# Altium footprint library Connector_Samtec_LTMM.PcbLib: 26 footprints (part 2 of 2)
Each footprint in its own frame and in the unit in brackets; x right, y up, seen from the top. Pads: shape width x height; smd on the part's side, far side on the other; paste and mask are expansions set on the pad; w line width, h text height; cw(c..) or ccw(c..) is an arc to the next point about the centre after c.
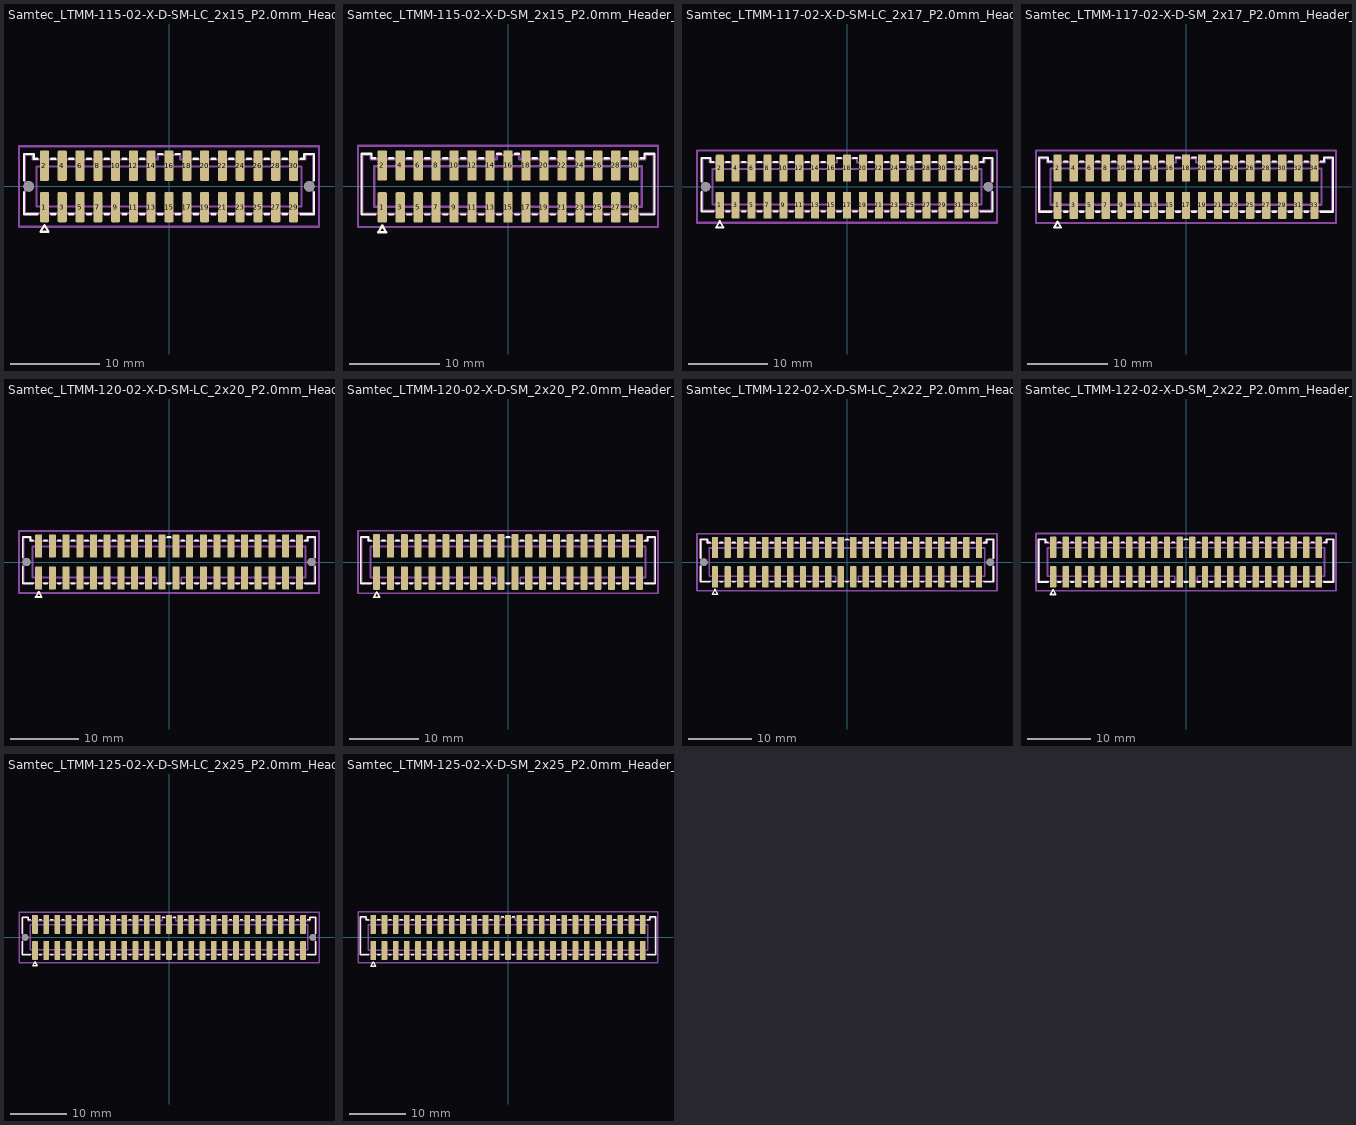
[diagram p1: the footprints below, top view; thin cyan lines are the x and y axes]

## Samtec_LTMM-115-02-X-D-SM-LC_2x15_P2.0mm_Header_Vertical_LockingClip [mm]
pads (32):
  rrect25% 1.02x3.39 smd: 1(-14,-2.33) 2(-14,2.33) 3(-12,-2.33) 4(-12,2.33) 5(-10,-2.33) 6(-10,2.33) 7(-8,-2.33) 8(-8,2.33) 9(-6,-2.33) 10(-6,2.33) 11(-4,-2.33) 12(-4,2.33) 13(-2,-2.33) 14(-2,2.33) 15(0,-2.33) 16(0,2.33) 17(2,-2.33) 18(2,2.33) 19(4,-2.33) 20(4,2.33) 21(6,-2.33) 22(6,2.33) 23(8,-2.33) 24(8,2.33) 25(10,-2.33) 26(10,2.33) 27(12,-2.33) 28(12,2.33) 29(14,-2.33) 30(14,2.33)
  round 1.19 hole 1.19: Un1(-15.76,0) Un2(15.76,0)
F.SilkS:
  lines w0.254: -16.301,-0.662 -16.301,-3.125 -14.77,-3.125 ; -16.301,0.662 -16.301,3.635 -15.192,3.635 -15.192,3.125 -14.77,3.125 ; -13.23,-3.125 -12.77,-3.125 ; -13.23,3.125 -12.77,3.125 ; -11.23,-3.125 -10.77,-3.125 ; -11.23,3.125 -10.77,3.125 ; -9.23,-3.125 -8.77,-3.125 ; -9.23,3.125 -8.77,3.125 ; -7.23,-3.125 -6.77,-3.125 ; -7.23,3.125 -6.77,3.125 ; -5.23,-3.125 -4.77,-3.125 ; -5.23,3.125 -4.77,3.125 ; -3.23,-3.125 -2.77,-3.125 ; -3.23,3.125 -2.77,3.125 ; -1.23,-3.125 -0.77,-3.125 ; -1.23,3.635 -0.77,3.635 ; 0.77,-3.125 1.23,-3.125 ; 0.77,3.635 1.23,3.635 ; 2.77,-3.125 3.23,-3.125 ; 2.77,3.125 3.23,3.125 ; 4.77,-3.125 5.23,-3.125 ; 4.77,3.125 5.23,3.125 ; 6.77,-3.125 7.23,-3.125 ; 6.77,3.125 7.23,3.125 ; 8.77,-3.125 9.23,-3.125 ; 8.77,3.125 9.23,3.125 ; 10.77,-3.125 11.23,-3.125 ; 10.77,3.125 11.23,3.125 ; 12.77,-3.125 13.23,-3.125 ; 12.77,3.125 13.23,3.125 ; 14.77,-3.125 16.301,-3.125 16.301,-0.662 ; 14.77,3.125 15.192,3.125 15.192,3.635 16.301,3.635 16.301,0.662 ; -14.442,-5.105 -13.558,-5.105 -14,-4.34 -14.442,-5.105
Top Assembly:
  lines w0.254: -14.381,-3.015 -14,-2.253 -13.619,-3.015 ; -1.78,-3.015 -1.78,-2.253 -14.889,-2.253 -14.889,2.253 14.889,2.253 14.889,-2.253 1.78,-2.253 1.78,-3.015 ; -16.191,-3.015 16.191,-3.015 16.191,3.015 16.191,3.525 15.302,3.525 15.302,3.015 1.25,3.015 1.25,3.525 -1.25,3.525 -1.25,3.015 -15.302,3.015 -15.302,3.525 -16.191,3.525 -16.191,-3.015
  text "'.Designator'" at -4.047,-0.84 h1
Top Courtyard:
  lines w0.254: -16.86,-4.53 16.86,-4.53 16.86,4.53 -16.86,4.53 -16.86,-4.53
Top Designator:
  text ".Designator" at -7.618,-0.795 h1.52

## Samtec_LTMM-115-02-X-D-SM_2x15_P2.0mm_Header_Vertical [mm]
pads (30):
  rrect25% 1.02x3.39 smd: 1(-14,-2.33) 2(-14,2.33) 3(-12,-2.33) 4(-12,2.33) 5(-10,-2.33) 6(-10,2.33) 7(-8,-2.33) 8(-8,2.33) 9(-6,-2.33) 10(-6,2.33) 11(-4,-2.33) 12(-4,2.33) 13(-2,-2.33) 14(-2,2.33) 15(0,-2.33) 16(0,2.33) 17(2,-2.33) 18(2,2.33) 19(4,-2.33) 20(4,2.33) 21(6,-2.33) 22(6,2.33) 23(8,-2.33) 24(8,2.33) 25(10,-2.33) 26(10,2.33) 27(12,-2.33) 28(12,2.33) 29(14,-2.33) 30(14,2.33)
F.SilkS:
  lines w0.254: -14.77,-3.125 -16.301,-3.125 -16.301,3.635 -15.192,3.635 -15.192,3.125 -14.77,3.125 ; -13.23,-3.125 -12.77,-3.125 ; -13.23,3.125 -12.77,3.125 ; -11.23,-3.125 -10.77,-3.125 ; -11.23,3.125 -10.77,3.125 ; -9.23,-3.125 -8.77,-3.125 ; -9.23,3.125 -8.77,3.125 ; -7.23,-3.125 -6.77,-3.125 ; -7.23,3.125 -6.77,3.125 ; -5.23,-3.125 -4.77,-3.125 ; -5.23,3.125 -4.77,3.125 ; -3.23,-3.125 -2.77,-3.125 ; -3.23,3.125 -2.77,3.125 ; -1.23,-3.125 -0.77,-3.125 ; -1.23,3.635 -0.77,3.635 ; 0.77,-3.125 1.23,-3.125 ; 0.77,3.635 1.23,3.635 ; 2.77,-3.125 3.23,-3.125 ; 2.77,3.125 3.23,3.125 ; 4.77,-3.125 5.23,-3.125 ; 4.77,3.125 5.23,3.125 ; 6.77,-3.125 7.23,-3.125 ; 6.77,3.125 7.23,3.125 ; 8.77,-3.125 9.23,-3.125 ; 8.77,3.125 9.23,3.125 ; 10.77,-3.125 11.23,-3.125 ; 10.77,3.125 11.23,3.125 ; 12.77,-3.125 13.23,-3.125 ; 12.77,3.125 13.23,3.125 ; 14.77,-3.125 16.301,-3.125 16.301,3.635 15.192,3.635 15.192,3.125 14.77,3.125 ; -14.442,-5.105 -13.558,-5.105 -14,-4.34 -14.442,-5.105
Top Assembly:
  lines w0.254: -14.381,-3.015 -14,-2.253 -13.619,-3.015 ; -1.78,-3.015 -1.78,-2.253 -14.889,-2.253 -14.889,2.253 14.889,2.253 14.889,-2.253 1.78,-2.253 1.78,-3.015 ; -16.191,-3.015 16.191,-3.015 16.191,3.015 16.191,3.525 15.302,3.525 15.302,3.015 1.25,3.015 1.25,3.525 -1.25,3.525 -1.25,3.015 -15.302,3.015 -15.302,3.525 -16.191,3.525 -16.191,-3.015
  text "'.Designator'" at -4.047,-0.84 h1
Top Courtyard:
  lines w0.254: -16.7,-4.53 16.7,-4.53 16.7,4.53 -16.7,4.53 -16.7,-4.53
Top Designator:
  text ".Designator" at -7.618,-0.795 h1.52

## Samtec_LTMM-117-02-X-D-SM-LC_2x17_P2.0mm_Header_Vertical_LockingClip [mm]
pads (36):
  rrect25% 1.02x3.39 smd: 1(-16,-2.33) 2(-16,2.33) 3(-14,-2.33) 4(-14,2.33) 5(-12,-2.33) 6(-12,2.33) 7(-10,-2.33) 8(-10,2.33) 9(-8,-2.33) 10(-8,2.33) 11(-6,-2.33) 12(-6,2.33) 13(-4,-2.33) 14(-4,2.33) 15(-2,-2.33) 16(-2,2.33) 17(0,-2.33) 18(0,2.33) 19(2,-2.33) 20(2,2.33) 21(4,-2.33) 22(4,2.33) 23(6,-2.33) 24(6,2.33) 25(8,-2.33) 26(8,2.33) 27(10,-2.33) 28(10,2.33) 29(12,-2.33) 30(12,2.33) 31(14,-2.33) 32(14,2.33) 33(16,-2.33) 34(16,2.33)
  round 1.19 hole 1.19: Un1(-17.76,0) Un2(17.76,0)
F.SilkS:
  lines w0.254: -18.302,-0.662 -18.302,-3.125 -16.77,-3.125 ; -18.302,0.662 -18.302,3.635 -17.193,3.635 -17.193,3.125 -16.77,3.125 ; -15.23,-3.125 -14.77,-3.125 ; -15.23,3.125 -14.77,3.125 ; -13.23,-3.125 -12.77,-3.125 ; -13.23,3.125 -12.77,3.125 ; -11.23,-3.125 -10.77,-3.125 ; -11.23,3.125 -10.77,3.125 ; -9.23,-3.125 -8.77,-3.125 ; -9.23,3.125 -8.77,3.125 ; -7.23,-3.125 -6.77,-3.125 ; -7.23,3.125 -6.77,3.125 ; -5.23,-3.125 -4.77,-3.125 ; -5.23,3.125 -4.77,3.125 ; -3.23,-3.125 -2.77,-3.125 ; -3.23,3.125 -2.77,3.125 ; -1.23,-3.125 -0.77,-3.125 ; -1.23,3.635 -0.77,3.635 ; 0.77,-3.125 1.23,-3.125 ; 0.77,3.635 1.23,3.635 ; 2.77,-3.125 3.23,-3.125 ; 2.77,3.125 3.23,3.125 ; 4.77,-3.125 5.23,-3.125 ; 4.77,3.125 5.23,3.125 ; 6.77,-3.125 7.23,-3.125 ; 6.77,3.125 7.23,3.125 ; 8.77,-3.125 9.23,-3.125 ; 8.77,3.125 9.23,3.125 ; 10.77,-3.125 11.23,-3.125 ; 10.77,3.125 11.23,3.125 ; 12.77,-3.125 13.23,-3.125 ; 12.77,3.125 13.23,3.125 ; 14.77,-3.125 15.23,-3.125 ; 14.77,3.125 15.23,3.125 ; 16.77,-3.125 18.302,-3.125 18.302,-0.662 ; 16.77,3.125 17.193,3.125 17.193,3.635 18.302,3.635 18.302,0.662 ; -16.442,-5.105 -15.558,-5.105 -16,-4.34 -16.442,-5.105
Top Assembly:
  lines w0.254: -16.381,-3.015 -16,-2.253 -15.619,-3.015 ; -1.78,-3.015 -1.78,-2.253 -16.889,-2.253 -16.889,2.253 16.889,2.253 16.889,-2.253 1.78,-2.253 1.78,-3.015 ; -18.192,-3.015 18.192,-3.015 18.192,3.015 18.192,3.525 17.303,3.525 17.303,3.015 1.25,3.015 1.25,3.525 -1.25,3.525 -1.25,3.015 -17.303,3.015 -17.303,3.525 -18.192,3.525 -18.192,-3.015
  text "'.Designator'" at -4.047,-0.84 h1
Top Courtyard:
  lines w0.254: -18.86,-4.53 18.86,-4.53 18.86,4.53 -18.86,4.53 -18.86,-4.53
Top Designator:
  text ".Designator" at -7.618,-0.795 h1.52

## Samtec_LTMM-117-02-X-D-SM_2x17_P2.0mm_Header_Vertical [mm]
pads (34):
  rrect25% 1.02x3.39 smd: 1(-16,-2.33) 2(-16,2.33) 3(-14,-2.33) 4(-14,2.33) 5(-12,-2.33) 6(-12,2.33) 7(-10,-2.33) 8(-10,2.33) 9(-8,-2.33) 10(-8,2.33) 11(-6,-2.33) 12(-6,2.33) 13(-4,-2.33) 14(-4,2.33) 15(-2,-2.33) 16(-2,2.33) 17(0,-2.33) 18(0,2.33) 19(2,-2.33) 20(2,2.33) 21(4,-2.33) 22(4,2.33) 23(6,-2.33) 24(6,2.33) 25(8,-2.33) 26(8,2.33) 27(10,-2.33) 28(10,2.33) 29(12,-2.33) 30(12,2.33) 31(14,-2.33) 32(14,2.33) 33(16,-2.33) 34(16,2.33)
F.SilkS:
  lines w0.254: -16.77,-3.125 -18.302,-3.125 -18.302,3.635 -17.193,3.635 -17.193,3.125 -16.77,3.125 ; -15.23,-3.125 -14.77,-3.125 ; -15.23,3.125 -14.77,3.125 ; -13.23,-3.125 -12.77,-3.125 ; -13.23,3.125 -12.77,3.125 ; -11.23,-3.125 -10.77,-3.125 ; -11.23,3.125 -10.77,3.125 ; -9.23,-3.125 -8.77,-3.125 ; -9.23,3.125 -8.77,3.125 ; -7.23,-3.125 -6.77,-3.125 ; -7.23,3.125 -6.77,3.125 ; -5.23,-3.125 -4.77,-3.125 ; -5.23,3.125 -4.77,3.125 ; -3.23,-3.125 -2.77,-3.125 ; -3.23,3.125 -2.77,3.125 ; -1.23,-3.125 -0.77,-3.125 ; -1.23,3.635 -0.77,3.635 ; 0.77,-3.125 1.23,-3.125 ; 0.77,3.635 1.23,3.635 ; 2.77,-3.125 3.23,-3.125 ; 2.77,3.125 3.23,3.125 ; 4.77,-3.125 5.23,-3.125 ; 4.77,3.125 5.23,3.125 ; 6.77,-3.125 7.23,-3.125 ; 6.77,3.125 7.23,3.125 ; 8.77,-3.125 9.23,-3.125 ; 8.77,3.125 9.23,3.125 ; 10.77,-3.125 11.23,-3.125 ; 10.77,3.125 11.23,3.125 ; 12.77,-3.125 13.23,-3.125 ; 12.77,3.125 13.23,3.125 ; 14.77,-3.125 15.23,-3.125 ; 14.77,3.125 15.23,3.125 ; 16.77,-3.125 18.302,-3.125 18.302,3.635 17.193,3.635 17.193,3.125 16.77,3.125 ; -16.442,-5.105 -15.558,-5.105 -16,-4.34 -16.442,-5.105
Top Assembly:
  lines w0.254: -16.381,-3.015 -16,-2.253 -15.619,-3.015 ; -1.78,-3.015 -1.78,-2.253 -16.889,-2.253 -16.889,2.253 16.889,2.253 16.889,-2.253 1.78,-2.253 1.78,-3.015 ; -18.192,-3.015 18.192,-3.015 18.192,3.015 18.192,3.525 17.303,3.525 17.303,3.015 1.25,3.015 1.25,3.525 -1.25,3.525 -1.25,3.015 -17.303,3.015 -17.303,3.525 -18.192,3.525 -18.192,-3.015
  text "'.Designator'" at -4.047,-0.84 h1
Top Courtyard:
  lines w0.254: -18.7,-4.53 18.7,-4.53 18.7,4.53 -18.7,4.53 -18.7,-4.53
Top Designator:
  text ".Designator" at -7.618,-0.795 h1.52

## Samtec_LTMM-120-02-X-D-SM-LC_2x20_P2.0mm_Header_Vertical_LockingClip [mm]
pads (42):
  rrect25% 1.02x3.39 smd: 1(-19,-2.33) 2(-19,2.33) 3(-17,-2.33) 4(-17,2.33) 5(-15,-2.33) 6(-15,2.33) 7(-13,-2.33) 8(-13,2.33) 9(-11,-2.33) 10(-11,2.33) 11(-9,-2.33) 12(-9,2.33) 13(-7,-2.33) 14(-7,2.33) 15(-5,-2.33) 16(-5,2.33) 17(-3,-2.33) 18(-3,2.33) 19(-1,-2.33) 20(-1,2.33) 21(1,-2.33) 22(1,2.33) 23(3,-2.33) 24(3,2.33) 25(5,-2.33) 26(5,2.33) 27(7,-2.33) 28(7,2.33) 29(9,-2.33) 30(9,2.33) 31(11,-2.33) 32(11,2.33) 33(13,-2.33) 34(13,2.33) 35(15,-2.33) 36(15,2.33) 37(17,-2.33) 38(17,2.33) 39(19,-2.33) 40(19,2.33)
  round 1.19 hole 1.19: Un1(-20.76,0) Un2(20.76,0)
F.SilkS:
  lines w0.254: -21.301,-0.662 -21.301,-3.125 -19.77,-3.125 ; -21.301,0.662 -21.301,3.635 -20.192,3.635 -20.192,3.125 -19.77,3.125 ; -18.23,-3.125 -17.77,-3.125 ; -18.23,3.125 -17.77,3.125 ; -16.23,-3.125 -15.77,-3.125 ; -16.23,3.125 -15.77,3.125 ; -14.23,-3.125 -13.77,-3.125 ; -14.23,3.125 -13.77,3.125 ; -12.23,-3.125 -11.77,-3.125 ; -12.23,3.125 -11.77,3.125 ; -10.23,-3.125 -9.77,-3.125 ; -10.23,3.125 -9.77,3.125 ; -8.23,-3.125 -7.77,-3.125 ; -8.23,3.125 -7.77,3.125 ; -6.23,-3.125 -5.77,-3.125 ; -6.23,3.125 -5.77,3.125 ; -4.23,-3.125 -3.77,-3.125 ; -4.23,3.125 -3.77,3.125 ; -2.23,-3.125 -1.77,-3.125 ; -2.23,3.125 -1.77,3.125 ; -0.23,-3.125 0.23,-3.125 ; -0.23,3.635 0.23,3.635 ; 1.77,-3.125 2.23,-3.125 ; 1.77,3.125 2.23,3.125 ; 3.77,-3.125 4.23,-3.125 ; 3.77,3.125 4.23,3.125 ; 5.77,-3.125 6.23,-3.125 ; 5.77,3.125 6.23,3.125 ; 7.77,-3.125 8.23,-3.125 ; 7.77,3.125 8.23,3.125 ; 9.77,-3.125 10.23,-3.125 ; 9.77,3.125 10.23,3.125 ; 11.77,-3.125 12.23,-3.125 ; 11.77,3.125 12.23,3.125 ; 13.77,-3.125 14.23,-3.125 ; 13.77,3.125 14.23,3.125 ; 15.77,-3.125 16.23,-3.125 ; 15.77,3.125 16.23,3.125 ; 17.77,-3.125 18.23,-3.125 ; 17.77,3.125 18.23,3.125 ; 19.77,-3.125 21.301,-3.125 21.301,-0.662 ; 19.77,3.125 20.192,3.125 20.192,3.635 21.301,3.635 21.301,0.662 ; -19.442,-5.105 -18.558,-5.105 -19,-4.34 -19.442,-5.105
Top Assembly:
  lines w0.254: -19.381,-3.015 -19,-2.253 -18.619,-3.015 ; -1.78,-3.015 -1.78,-2.253 -19.889,-2.253 -19.889,2.253 19.889,2.253 19.889,-2.253 1.78,-2.253 1.78,-3.015 ; -21.191,-3.015 21.191,-3.015 21.191,3.015 21.191,3.525 20.302,3.525 20.302,3.015 1.25,3.015 1.25,3.525 -1.25,3.525 -1.25,3.015 -20.302,3.015 -20.302,3.525 -21.191,3.525 -21.191,-3.015
  text "'.Designator'" at -4.047,-0.84 h1
Top Courtyard:
  lines w0.254: -21.86,-4.53 21.86,-4.53 21.86,4.53 -21.86,4.53 -21.86,-4.53
Top Designator:
  text ".Designator" at -7.618,-0.795 h1.52

## Samtec_LTMM-120-02-X-D-SM_2x20_P2.0mm_Header_Vertical [mm]
pads (40):
  rrect25% 1.02x3.39 smd: 1(-19,-2.33) 2(-19,2.33) 3(-17,-2.33) 4(-17,2.33) 5(-15,-2.33) 6(-15,2.33) 7(-13,-2.33) 8(-13,2.33) 9(-11,-2.33) 10(-11,2.33) 11(-9,-2.33) 12(-9,2.33) 13(-7,-2.33) 14(-7,2.33) 15(-5,-2.33) 16(-5,2.33) 17(-3,-2.33) 18(-3,2.33) 19(-1,-2.33) 20(-1,2.33) 21(1,-2.33) 22(1,2.33) 23(3,-2.33) 24(3,2.33) 25(5,-2.33) 26(5,2.33) 27(7,-2.33) 28(7,2.33) 29(9,-2.33) 30(9,2.33) 31(11,-2.33) 32(11,2.33) 33(13,-2.33) 34(13,2.33) 35(15,-2.33) 36(15,2.33) 37(17,-2.33) 38(17,2.33) 39(19,-2.33) 40(19,2.33)
F.SilkS:
  lines w0.254: -19.77,-3.125 -21.301,-3.125 -21.301,3.635 -20.192,3.635 -20.192,3.125 -19.77,3.125 ; -18.23,-3.125 -17.77,-3.125 ; -18.23,3.125 -17.77,3.125 ; -16.23,-3.125 -15.77,-3.125 ; -16.23,3.125 -15.77,3.125 ; -14.23,-3.125 -13.77,-3.125 ; -14.23,3.125 -13.77,3.125 ; -12.23,-3.125 -11.77,-3.125 ; -12.23,3.125 -11.77,3.125 ; -10.23,-3.125 -9.77,-3.125 ; -10.23,3.125 -9.77,3.125 ; -8.23,-3.125 -7.77,-3.125 ; -8.23,3.125 -7.77,3.125 ; -6.23,-3.125 -5.77,-3.125 ; -6.23,3.125 -5.77,3.125 ; -4.23,-3.125 -3.77,-3.125 ; -4.23,3.125 -3.77,3.125 ; -2.23,-3.125 -1.77,-3.125 ; -2.23,3.125 -1.77,3.125 ; -0.23,-3.125 0.23,-3.125 ; -0.23,3.635 0.23,3.635 ; 1.77,-3.125 2.23,-3.125 ; 1.77,3.125 2.23,3.125 ; 3.77,-3.125 4.23,-3.125 ; 3.77,3.125 4.23,3.125 ; 5.77,-3.125 6.23,-3.125 ; 5.77,3.125 6.23,3.125 ; 7.77,-3.125 8.23,-3.125 ; 7.77,3.125 8.23,3.125 ; 9.77,-3.125 10.23,-3.125 ; 9.77,3.125 10.23,3.125 ; 11.77,-3.125 12.23,-3.125 ; 11.77,3.125 12.23,3.125 ; 13.77,-3.125 14.23,-3.125 ; 13.77,3.125 14.23,3.125 ; 15.77,-3.125 16.23,-3.125 ; 15.77,3.125 16.23,3.125 ; 17.77,-3.125 18.23,-3.125 ; 17.77,3.125 18.23,3.125 ; 19.77,-3.125 21.301,-3.125 21.301,3.635 20.192,3.635 20.192,3.125 19.77,3.125 ; -19.442,-5.105 -18.558,-5.105 -19,-4.34 -19.442,-5.105
Top Assembly:
  lines w0.254: -19.381,-3.015 -19,-2.253 -18.619,-3.015 ; -1.78,-3.015 -1.78,-2.253 -19.889,-2.253 -19.889,2.253 19.889,2.253 19.889,-2.253 1.78,-2.253 1.78,-3.015 ; -21.191,-3.015 21.191,-3.015 21.191,3.015 21.191,3.525 20.302,3.525 20.302,3.015 1.25,3.015 1.25,3.525 -1.25,3.525 -1.25,3.015 -20.302,3.015 -20.302,3.525 -21.191,3.525 -21.191,-3.015
  text "'.Designator'" at -4.047,-0.84 h1
Top Courtyard:
  lines w0.254: -21.7,-4.53 21.7,-4.53 21.7,4.53 -21.7,4.53 -21.7,-4.53
Top Designator:
  text ".Designator" at -7.618,-0.795 h1.52

## Samtec_LTMM-122-02-X-D-SM-LC_2x22_P2.0mm_Header_Vertical_LockingClip [mm]
pads (46):
  rrect25% 1.02x3.39 smd: 1(-21,-2.33) 2(-21,2.33) 3(-19,-2.33) 4(-19,2.33) 5(-17,-2.33) 6(-17,2.33) 7(-15,-2.33) 8(-15,2.33) 9(-13,-2.33) 10(-13,2.33) 11(-11,-2.33) 12(-11,2.33) 13(-9,-2.33) 14(-9,2.33) 15(-7,-2.33) 16(-7,2.33) 17(-5,-2.33) 18(-5,2.33) 19(-3,-2.33) 20(-3,2.33) 21(-1,-2.33) 22(-1,2.33) 23(1,-2.33) 24(1,2.33) 25(3,-2.33) 26(3,2.33) 27(5,-2.33) 28(5,2.33) 29(7,-2.33) 30(7,2.33) 31(9,-2.33) 32(9,2.33) 33(11,-2.33) 34(11,2.33) 35(13,-2.33) 36(13,2.33) 37(15,-2.33) 38(15,2.33) 39(17,-2.33) 40(17,2.33) 41(19,-2.33) 42(19,2.33) 43(21,-2.33) 44(21,2.33)
  round 1.19 hole 1.19: Un1(-22.76,0) Un2(22.76,0)
F.SilkS:
  lines w0.254: -23.302,-0.662 -23.302,-3.125 -21.77,-3.125 ; -23.302,0.662 -23.302,3.635 -22.193,3.635 -22.193,3.125 -21.77,3.125 ; -20.23,-3.125 -19.77,-3.125 ; -20.23,3.125 -19.77,3.125 ; -18.23,-3.125 -17.77,-3.125 ; -18.23,3.125 -17.77,3.125 ; -16.23,-3.125 -15.77,-3.125 ; -16.23,3.125 -15.77,3.125 ; -14.23,-3.125 -13.77,-3.125 ; -14.23,3.125 -13.77,3.125 ; -12.23,-3.125 -11.77,-3.125 ; -12.23,3.125 -11.77,3.125 ; -10.23,-3.125 -9.77,-3.125 ; -10.23,3.125 -9.77,3.125 ; -8.23,-3.125 -7.77,-3.125 ; -8.23,3.125 -7.77,3.125 ; -6.23,-3.125 -5.77,-3.125 ; -6.23,3.125 -5.77,3.125 ; -4.23,-3.125 -3.77,-3.125 ; -4.23,3.125 -3.77,3.125 ; -2.23,-3.125 -1.77,-3.125 ; -2.23,3.125 -1.77,3.125 ; -0.23,-3.125 0.23,-3.125 ; -0.23,3.635 0.23,3.635 ; 1.77,-3.125 2.23,-3.125 ; 1.77,3.125 2.23,3.125 ; 3.77,-3.125 4.23,-3.125 ; 3.77,3.125 4.23,3.125 ; 5.77,-3.125 6.23,-3.125 ; 5.77,3.125 6.23,3.125 ; 7.77,-3.125 8.23,-3.125 ; 7.77,3.125 8.23,3.125 ; 9.77,-3.125 10.23,-3.125 ; 9.77,3.125 10.23,3.125 ; 11.77,-3.125 12.23,-3.125 ; 11.77,3.125 12.23,3.125 ; 13.77,-3.125 14.23,-3.125 ; 13.77,3.125 14.23,3.125 ; 15.77,-3.125 16.23,-3.125 ; 15.77,3.125 16.23,3.125 ; 17.77,-3.125 18.23,-3.125 ; 17.77,3.125 18.23,3.125 ; 19.77,-3.125 20.23,-3.125 ; 19.77,3.125 20.23,3.125 ; 21.77,-3.125 23.302,-3.125 23.302,-0.662 ; 21.77,3.125 22.193,3.125 22.193,3.635 23.302,3.635 23.302,0.662 ; -21.442,-5.105 -20.558,-5.105 -21,-4.34 -21.442,-5.105
Top Assembly:
  lines w0.254: -21.381,-3.015 -21,-2.253 -20.619,-3.015 ; -1.78,-3.015 -1.78,-2.253 -21.889,-2.253 -21.889,2.253 21.889,2.253 21.889,-2.253 1.78,-2.253 1.78,-3.015 ; -23.192,-3.015 23.192,-3.015 23.192,3.015 23.192,3.525 22.303,3.525 22.303,3.015 1.25,3.015 1.25,3.525 -1.25,3.525 -1.25,3.015 -22.303,3.015 -22.303,3.525 -23.192,3.525 -23.192,-3.015
  text "'.Designator'" at -4.047,-0.84 h1
Top Courtyard:
  lines w0.254: -23.86,-4.53 23.86,-4.53 23.86,4.53 -23.86,4.53 -23.86,-4.53
Top Designator:
  text ".Designator" at -7.618,-0.795 h1.52

## Samtec_LTMM-122-02-X-D-SM_2x22_P2.0mm_Header_Vertical [mm]
pads (44):
  rrect25% 1.02x3.39 smd: 1(-21,-2.33) 2(-21,2.33) 3(-19,-2.33) 4(-19,2.33) 5(-17,-2.33) 6(-17,2.33) 7(-15,-2.33) 8(-15,2.33) 9(-13,-2.33) 10(-13,2.33) 11(-11,-2.33) 12(-11,2.33) 13(-9,-2.33) 14(-9,2.33) 15(-7,-2.33) 16(-7,2.33) 17(-5,-2.33) 18(-5,2.33) 19(-3,-2.33) 20(-3,2.33) 21(-1,-2.33) 22(-1,2.33) 23(1,-2.33) 24(1,2.33) 25(3,-2.33) 26(3,2.33) 27(5,-2.33) 28(5,2.33) 29(7,-2.33) 30(7,2.33) 31(9,-2.33) 32(9,2.33) 33(11,-2.33) 34(11,2.33) 35(13,-2.33) 36(13,2.33) 37(15,-2.33) 38(15,2.33) 39(17,-2.33) 40(17,2.33) 41(19,-2.33) 42(19,2.33) 43(21,-2.33) 44(21,2.33)
F.SilkS:
  lines w0.254: -21.77,-3.125 -23.302,-3.125 -23.302,3.635 -22.193,3.635 -22.193,3.125 -21.77,3.125 ; -20.23,-3.125 -19.77,-3.125 ; -20.23,3.125 -19.77,3.125 ; -18.23,-3.125 -17.77,-3.125 ; -18.23,3.125 -17.77,3.125 ; -16.23,-3.125 -15.77,-3.125 ; -16.23,3.125 -15.77,3.125 ; -14.23,-3.125 -13.77,-3.125 ; -14.23,3.125 -13.77,3.125 ; -12.23,-3.125 -11.77,-3.125 ; -12.23,3.125 -11.77,3.125 ; -10.23,-3.125 -9.77,-3.125 ; -10.23,3.125 -9.77,3.125 ; -8.23,-3.125 -7.77,-3.125 ; -8.23,3.125 -7.77,3.125 ; -6.23,-3.125 -5.77,-3.125 ; -6.23,3.125 -5.77,3.125 ; -4.23,-3.125 -3.77,-3.125 ; -4.23,3.125 -3.77,3.125 ; -2.23,-3.125 -1.77,-3.125 ; -2.23,3.125 -1.77,3.125 ; -0.23,-3.125 0.23,-3.125 ; -0.23,3.635 0.23,3.635 ; 1.77,-3.125 2.23,-3.125 ; 1.77,3.125 2.23,3.125 ; 3.77,-3.125 4.23,-3.125 ; 3.77,3.125 4.23,3.125 ; 5.77,-3.125 6.23,-3.125 ; 5.77,3.125 6.23,3.125 ; 7.77,-3.125 8.23,-3.125 ; 7.77,3.125 8.23,3.125 ; 9.77,-3.125 10.23,-3.125 ; 9.77,3.125 10.23,3.125 ; 11.77,-3.125 12.23,-3.125 ; 11.77,3.125 12.23,3.125 ; 13.77,-3.125 14.23,-3.125 ; 13.77,3.125 14.23,3.125 ; 15.77,-3.125 16.23,-3.125 ; 15.77,3.125 16.23,3.125 ; 17.77,-3.125 18.23,-3.125 ; 17.77,3.125 18.23,3.125 ; 19.77,-3.125 20.23,-3.125 ; 19.77,3.125 20.23,3.125 ; 21.77,-3.125 23.302,-3.125 23.302,3.635 22.193,3.635 22.193,3.125 21.77,3.125 ; -21.442,-5.105 -20.558,-5.105 -21,-4.34 -21.442,-5.105
Top Assembly:
  lines w0.254: -21.381,-3.015 -21,-2.253 -20.619,-3.015 ; -1.78,-3.015 -1.78,-2.253 -21.889,-2.253 -21.889,2.253 21.889,2.253 21.889,-2.253 1.78,-2.253 1.78,-3.015 ; -23.192,-3.015 23.192,-3.015 23.192,3.015 23.192,3.525 22.303,3.525 22.303,3.015 1.25,3.015 1.25,3.525 -1.25,3.525 -1.25,3.015 -22.303,3.015 -22.303,3.525 -23.192,3.525 -23.192,-3.015
  text "'.Designator'" at -4.047,-0.84 h1
Top Courtyard:
  lines w0.254: -23.7,-4.53 23.7,-4.53 23.7,4.53 -23.7,4.53 -23.7,-4.53
Top Designator:
  text ".Designator" at -7.618,-0.795 h1.52

## Samtec_LTMM-125-02-X-D-SM-LC_2x25_P2.0mm_Header_Vertical_LockingClip [mm]
pads (52):
  rrect25% 1.02x3.39 smd: 1(-24,-2.33) 2(-24,2.33) 3(-22,-2.33) 4(-22,2.33) 5(-20,-2.33) 6(-20,2.33) 7(-18,-2.33) 8(-18,2.33) 9(-16,-2.33) 10(-16,2.33) 11(-14,-2.33) 12(-14,2.33) 13(-12,-2.33) 14(-12,2.33) 15(-10,-2.33) 16(-10,2.33) 17(-8,-2.33) 18(-8,2.33) 19(-6,-2.33) 20(-6,2.33) 21(-4,-2.33) 22(-4,2.33) 23(-2,-2.33) 24(-2,2.33) 25(0,-2.33) 26(0,2.33) 27(2,-2.33) 28(2,2.33) 29(4,-2.33) 30(4,2.33) 31(6,-2.33) 32(6,2.33) 33(8,-2.33) 34(8,2.33) 35(10,-2.33) 36(10,2.33) 37(12,-2.33) 38(12,2.33) 39(14,-2.33) 40(14,2.33) 41(16,-2.33) 42(16,2.33) 43(18,-2.33) 44(18,2.33) 45(20,-2.33) 46(20,2.33) 47(22,-2.33) 48(22,2.33) 49(24,-2.33) 50(24,2.33)
  round 1.19 hole 1.19: Un1(-25.76,0) Un2(25.76,0)
F.SilkS:
  lines w0.254: -26.301,-0.662 -26.301,-3.125 -24.77,-3.125 ; -26.301,0.662 -26.301,3.635 -25.192,3.635 -25.192,3.125 -24.77,3.125 ; -23.23,-3.125 -22.77,-3.125 ; -23.23,3.125 -22.77,3.125 ; -21.23,-3.125 -20.77,-3.125 ; -21.23,3.125 -20.77,3.125 ; -19.23,-3.125 -18.77,-3.125 ; -19.23,3.125 -18.77,3.125 ; -17.23,-3.125 -16.77,-3.125 ; -17.23,3.125 -16.77,3.125 ; -15.23,-3.125 -14.77,-3.125 ; -15.23,3.125 -14.77,3.125 ; -13.23,-3.125 -12.77,-3.125 ; -13.23,3.125 -12.77,3.125 ; -11.23,-3.125 -10.77,-3.125 ; -11.23,3.125 -10.77,3.125 ; -9.23,-3.125 -8.77,-3.125 ; -9.23,3.125 -8.77,3.125 ; -7.23,-3.125 -6.77,-3.125 ; -7.23,3.125 -6.77,3.125 ; -5.23,-3.125 -4.77,-3.125 ; -5.23,3.125 -4.77,3.125 ; -3.23,-3.125 -2.77,-3.125 ; -3.23,3.125 -2.77,3.125 ; -1.23,-3.125 -0.77,-3.125 ; -1.23,3.635 -0.77,3.635 ; 0.77,-3.125 1.23,-3.125 ; 0.77,3.635 1.23,3.635 ; 2.77,-3.125 3.23,-3.125 ; 2.77,3.125 3.23,3.125 ; 4.77,-3.125 5.23,-3.125 ; 4.77,3.125 5.23,3.125 ; 6.77,-3.125 7.23,-3.125 ; 6.77,3.125 7.23,3.125 ; 8.77,-3.125 9.23,-3.125 ; 8.77,3.125 9.23,3.125 ; 10.77,-3.125 11.23,-3.125 ; 10.77,3.125 11.23,3.125 ; 12.77,-3.125 13.23,-3.125 ; 12.77,3.125 13.23,3.125 ; 14.77,-3.125 15.23,-3.125 ; 14.77,3.125 15.23,3.125 ; 16.77,-3.125 17.23,-3.125 ; 16.77,3.125 17.23,3.125 ; 18.77,-3.125 19.23,-3.125 ; 18.77,3.125 19.23,3.125 ; 20.77,-3.125 21.23,-3.125 ; 20.77,3.125 21.23,3.125 ; 22.77,-3.125 23.23,-3.125 ; 22.77,3.125 23.23,3.125 ; 24.77,-3.125 26.301,-3.125 26.301,-0.662 ; 24.77,3.125 25.192,3.125 25.192,3.635 26.301,3.635 26.301,0.662 ; -24.442,-5.105 -23.558,-5.105 -24,-4.34 -24.442,-5.105
Top Assembly:
  lines w0.254: -24.381,-3.015 -24,-2.253 -23.619,-3.015 ; -1.78,-3.015 -1.78,-2.253 -24.889,-2.253 -24.889,2.253 24.889,2.253 24.889,-2.253 1.78,-2.253 1.78,-3.015 ; -26.191,-3.015 26.191,-3.015 26.191,3.015 26.191,3.525 25.302,3.525 25.302,3.015 1.25,3.015 1.25,3.525 -1.25,3.525 -1.25,3.015 -25.302,3.015 -25.302,3.525 -26.191,3.525 -26.191,-3.015
  text "'.Designator'" at -4.047,-0.84 h1
Top Courtyard:
  lines w0.254: -26.86,-4.53 26.86,-4.53 26.86,4.53 -26.86,4.53 -26.86,-4.53
Top Designator:
  text ".Designator" at -7.618,-0.795 h1.52

## Samtec_LTMM-125-02-X-D-SM_2x25_P2.0mm_Header_Vertical [mm]
pads (50):
  rrect25% 1.02x3.39 smd: 1(-24,-2.33) 2(-24,2.33) 3(-22,-2.33) 4(-22,2.33) 5(-20,-2.33) 6(-20,2.33) 7(-18,-2.33) 8(-18,2.33) 9(-16,-2.33) 10(-16,2.33) 11(-14,-2.33) 12(-14,2.33) 13(-12,-2.33) 14(-12,2.33) 15(-10,-2.33) 16(-10,2.33) 17(-8,-2.33) 18(-8,2.33) 19(-6,-2.33) 20(-6,2.33) 21(-4,-2.33) 22(-4,2.33) 23(-2,-2.33) 24(-2,2.33) 25(0,-2.33) 26(0,2.33) 27(2,-2.33) 28(2,2.33) 29(4,-2.33) 30(4,2.33) 31(6,-2.33) 32(6,2.33) 33(8,-2.33) 34(8,2.33) 35(10,-2.33) 36(10,2.33) 37(12,-2.33) 38(12,2.33) 39(14,-2.33) 40(14,2.33) 41(16,-2.33) 42(16,2.33) 43(18,-2.33) 44(18,2.33) 45(20,-2.33) 46(20,2.33) 47(22,-2.33) 48(22,2.33) 49(24,-2.33) 50(24,2.33)
F.SilkS:
  lines w0.254: -24.77,-3.125 -26.301,-3.125 -26.301,3.635 -25.192,3.635 -25.192,3.125 -24.77,3.125 ; -23.23,-3.125 -22.77,-3.125 ; -23.23,3.125 -22.77,3.125 ; -21.23,-3.125 -20.77,-3.125 ; -21.23,3.125 -20.77,3.125 ; -19.23,-3.125 -18.77,-3.125 ; -19.23,3.125 -18.77,3.125 ; -17.23,-3.125 -16.77,-3.125 ; -17.23,3.125 -16.77,3.125 ; -15.23,-3.125 -14.77,-3.125 ; -15.23,3.125 -14.77,3.125 ; -13.23,-3.125 -12.77,-3.125 ; -13.23,3.125 -12.77,3.125 ; -11.23,-3.125 -10.77,-3.125 ; -11.23,3.125 -10.77,3.125 ; -9.23,-3.125 -8.77,-3.125 ; -9.23,3.125 -8.77,3.125 ; -7.23,-3.125 -6.77,-3.125 ; -7.23,3.125 -6.77,3.125 ; -5.23,-3.125 -4.77,-3.125 ; -5.23,3.125 -4.77,3.125 ; -3.23,-3.125 -2.77,-3.125 ; -3.23,3.125 -2.77,3.125 ; -1.23,-3.125 -0.77,-3.125 ; -1.23,3.635 -0.77,3.635 ; 0.77,-3.125 1.23,-3.125 ; 0.77,3.635 1.23,3.635 ; 2.77,-3.125 3.23,-3.125 ; 2.77,3.125 3.23,3.125 ; 4.77,-3.125 5.23,-3.125 ; 4.77,3.125 5.23,3.125 ; 6.77,-3.125 7.23,-3.125 ; 6.77,3.125 7.23,3.125 ; 8.77,-3.125 9.23,-3.125 ; 8.77,3.125 9.23,3.125 ; 10.77,-3.125 11.23,-3.125 ; 10.77,3.125 11.23,3.125 ; 12.77,-3.125 13.23,-3.125 ; 12.77,3.125 13.23,3.125 ; 14.77,-3.125 15.23,-3.125 ; 14.77,3.125 15.23,3.125 ; 16.77,-3.125 17.23,-3.125 ; 16.77,3.125 17.23,3.125 ; 18.77,-3.125 19.23,-3.125 ; 18.77,3.125 19.23,3.125 ; 20.77,-3.125 21.23,-3.125 ; 20.77,3.125 21.23,3.125 ; 22.77,-3.125 23.23,-3.125 ; 22.77,3.125 23.23,3.125 ; 24.77,-3.125 26.301,-3.125 26.301,3.635 25.192,3.635 25.192,3.125 24.77,3.125 ; -24.442,-5.105 -23.558,-5.105 -24,-4.34 -24.442,-5.105
Top Assembly:
  lines w0.254: -24.381,-3.015 -24,-2.253 -23.619,-3.015 ; -1.78,-3.015 -1.78,-2.253 -24.889,-2.253 -24.889,2.253 24.889,2.253 24.889,-2.253 1.78,-2.253 1.78,-3.015 ; -26.191,-3.015 26.191,-3.015 26.191,3.015 26.191,3.525 25.302,3.525 25.302,3.015 1.25,3.015 1.25,3.525 -1.25,3.525 -1.25,3.015 -25.302,3.015 -25.302,3.525 -26.191,3.525 -26.191,-3.015
  text "'.Designator'" at -4.047,-0.84 h1
Top Courtyard:
  lines w0.254: -26.7,-4.53 26.7,-4.53 26.7,4.53 -26.7,4.53 -26.7,-4.53
Top Designator:
  text ".Designator" at -7.618,-0.795 h1.52